# Altium schematic symbol library A31301EEJASR-XYZ-IC-06.SchLib: 1 symbol
Pins are listed as number, name and electrical type; pins without a type are passive.

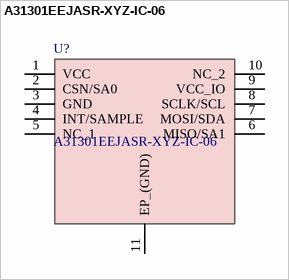
[diagram p0: symbol A31301EEJASR-XYZ-IC-06]

## A31301EEJASR-XYZ-IC-06
designator U?
3D Linear Hall-Effect Sensor with SPI, I2C Interfaces, and Advanced Low-Power Management; Manufacturer_Name: Allegro Microsystems; Geometry.Height: 0.8mm; Manufacturer_Part_Number: A31301EEJASR-XYZ-IC-06; Mouser Part Number: 250-A31301EEJASRIC06; Mouser Price/Stock: https://www.mouser.co.uk/ProductDetail/Allegro-MicroSystems/A31301EEJASR-XYZ-IC-06?qs=ST9lo4GX8V09bDUIBZAaKw%3D%3D; Arrow Part Number: A31301EEJASR-XYZ-IC-06; Arrow Price/Stock: https://www.arrow.com/en/products/a31301eejasr-xyz-ic-06/allegro-microsystems?utm_currency=USD&region=nac; Datasheet Link: https://www.allegromicro.com/en/
footprint SON50P300X300X80-11N-D
pins: 1 VCC, 2 CSN/SA0, 3 GND, 4 INT/SAMPLE, 5 NC_1, 6 MISO/SA1, 7 MOSI/SDA, 8 SCLK/SCL, 9 VCC_IO, 10 NC_2, 11 EP_(GND)